# Altium footprint library R1206.PcbLib: 1 footprints
Each footprint in its own frame and in the unit in brackets; x right, y up, seen from the top. Pads: shape width x height; smd on the part's side, far side on the other; paste and mask are expansions set on the pad; w line width, h text height; cw(c..) or ccw(c..) is an arc to the next point about the centre after c.
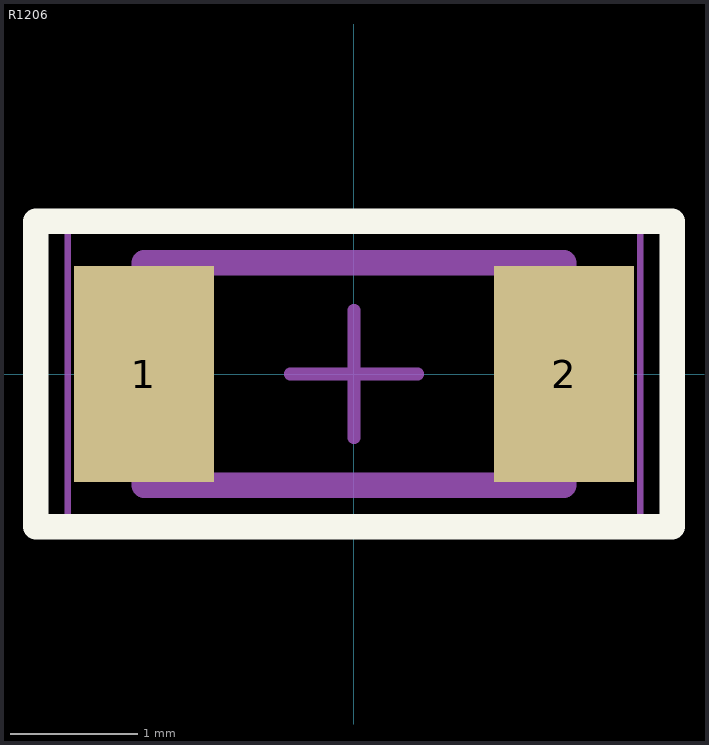
[diagram p0: the footprint, top view; thin cyan lines are the x and y axes]

## R1206 [mm] "Chip resistor, 2-Leads, Body 3,15x1,60mm, IPC Medium Density"
height 0.6
pads (2):
  rect 1.1x1.7 smd: 1(-1.65,0) 2(1.65,0)
Top Overlay:
  lines w0.2: -2.5,1.2 2.5,1.2 2.5,-1.2 -2.5,-1.2 -2.5,1.2
Mechanical 7:
  lines w0.2: -1.65,-0.875 -1.65,0.875 1.65,0.875 1.65,-0.875 -1.65,-0.875
Mechanical 15:
  lines w0.05: -2.25,-1.15 -2.25,1.15 2.25,1.15 2.25,-1.15 -2.25,-1.15
  lines w0.1: -0.5,0 0.5,0 ; 0,-0.5 0,0.5
3D body "res_1206.stp": height 0.7, standoff 0, extent -1.6,-0.8 1.6,0.8